# EAGLE library part LT1962 (library LT1962)
LT1962 Voltage Regulator 300mA with Shutdown Pin
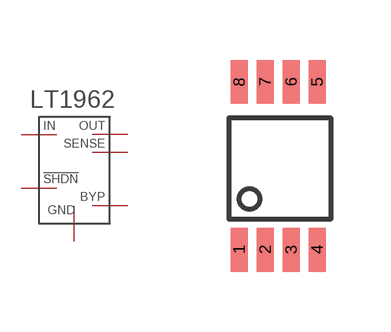
[diagram p0: symbol with the pads of MS8; footprint MS8]

Designator prefix -

## LT1962  [MS8]
1  OUT
2  SENSE
3  BYP
4  GND
5  SHDN
8  IN

## Footprint MS8 (pad centres in mm)
smd 0.42 x 1.1: 1 0,0; 2 0.65,0; 3 1.3,0; 4 1.95,0; 5 1.95,4.2; 6 1.3,4.2; 7 0.65,4.2; 8 0,4.2